# Altium footprint library SON8P50_200X100X40L35X25N.PcbLib: 1 footprints
Each footprint in its own frame and in the unit in brackets; x right, y up, seen from the top. Pads: shape width x height; smd on the part's side, far side on the other; paste and mask are expansions set on the pad; w line width, h text height; cw(c..) or ccw(c..) is an arc to the next point about the centre after c.
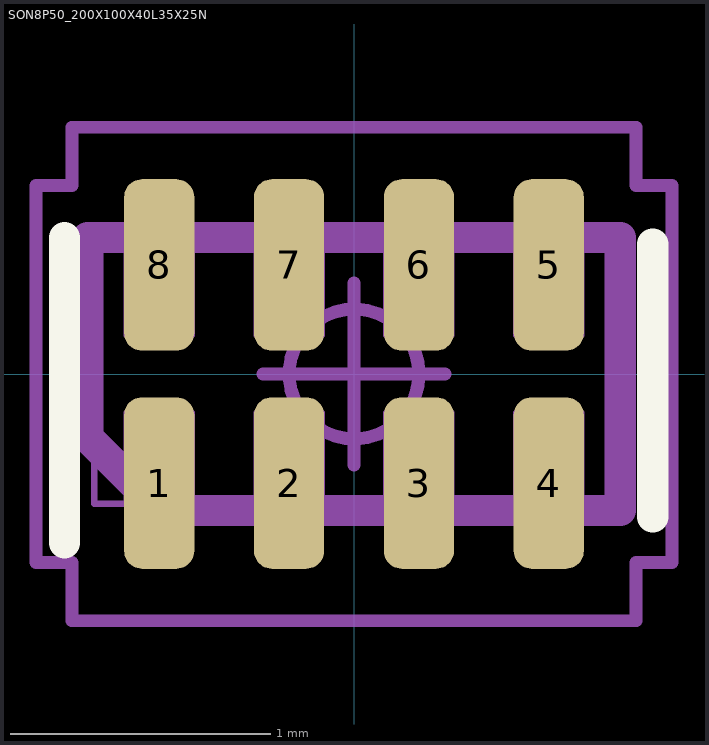
[diagram p0: the footprint, top view; thin cyan lines are the x and y axes]

## SON8P50_200X100X40L35X25N [mm] "Small Outline No-Lead (SON), 0.50 mm pitch; 8 pin, 2.00 mm L X 1.00 mm W X 0.40 mm H Body"
height 0.4
pads (8):
  rrect50% 0.27x0.66 smd mask+0.02: 1(-0.75,-0.42) 2(-0.25,-0.42) 3(0.25,-0.42) 4(0.75,-0.42) 5(0.75,0.42) 6(0.25,0.42) 7(-0.25,0.42) 8(-0.75,0.42)
Top Overlay:
  lines w0.12: -1.115,-0.65 -1.115,0.525 ; 1.15,-0.55 1.15,0.5
Mechanical 3:
  lines w0.12: -1.025,-0.245 -0.745,-0.525 1.025,-0.525 1.025,0.525 -1.025,0.525 -1.025,-0.245
Mechanical 5:
  lines w0.025: -1,-0.5 -1,0.5 1,0.5 1,-0.5 -1,-0.5 ; -0.875,-0.5 -0.625,-0.5 -0.625,-0.15 -0.875,-0.15 -0.875,-0.5 ; -0.875,0.15 -0.625,0.15 -0.625,0.5 -0.875,0.5 -0.875,0.15 ; -0.375,-0.5 -0.125,-0.5 -0.125,-0.15 -0.375,-0.15 -0.375,-0.5 ; -0.375,0.15 -0.125,0.15 -0.125,0.5 -0.375,0.5 -0.375,0.15 ; 0.125,-0.5 0.375,-0.5 0.375,-0.15 0.125,-0.15 0.125,-0.5 ; 0.125,0.15 0.375,0.15 0.375,0.5 0.125,0.5 0.125,0.15 ; 0.625,-0.5 0.875,-0.5 0.875,-0.15 0.625,-0.15 0.625,-0.5 ; 0.625,0.15 0.875,0.15 0.875,0.5 0.625,0.5 0.625,0.15
Mechanical 7:
  circle w0.05: c0,0 r0.25
  lines w0.05: -0.35,0 0.35,0 ; 0,-0.35 0,0.35 ; -1.225,-0.725 -1.225,0.725 -1.085,0.725 -1.085,0.95 1.085,0.95 1.085,0.725 1.225,0.725 1.225,-0.725 1.085,-0.725 1.085,-0.95 -1.085,-0.95 -1.085,-0.725 -1.225,-0.725
Mechanical 9:
  text "'.Designator'" at -5.69,-0.271 h1.02
3D body "SON8P50_200X100X40L35X25.STEP": height 0.4, standoff 0, extent -1,-0.55 1,0.55
3D body: height 0.4, standoff 0, extent -1.225,-0.95 1.225,0.95